# Altium integrated library Microchip Microcontroller 8-Bit PIC17.IntLib: 400 symbols (part 8 of 18)
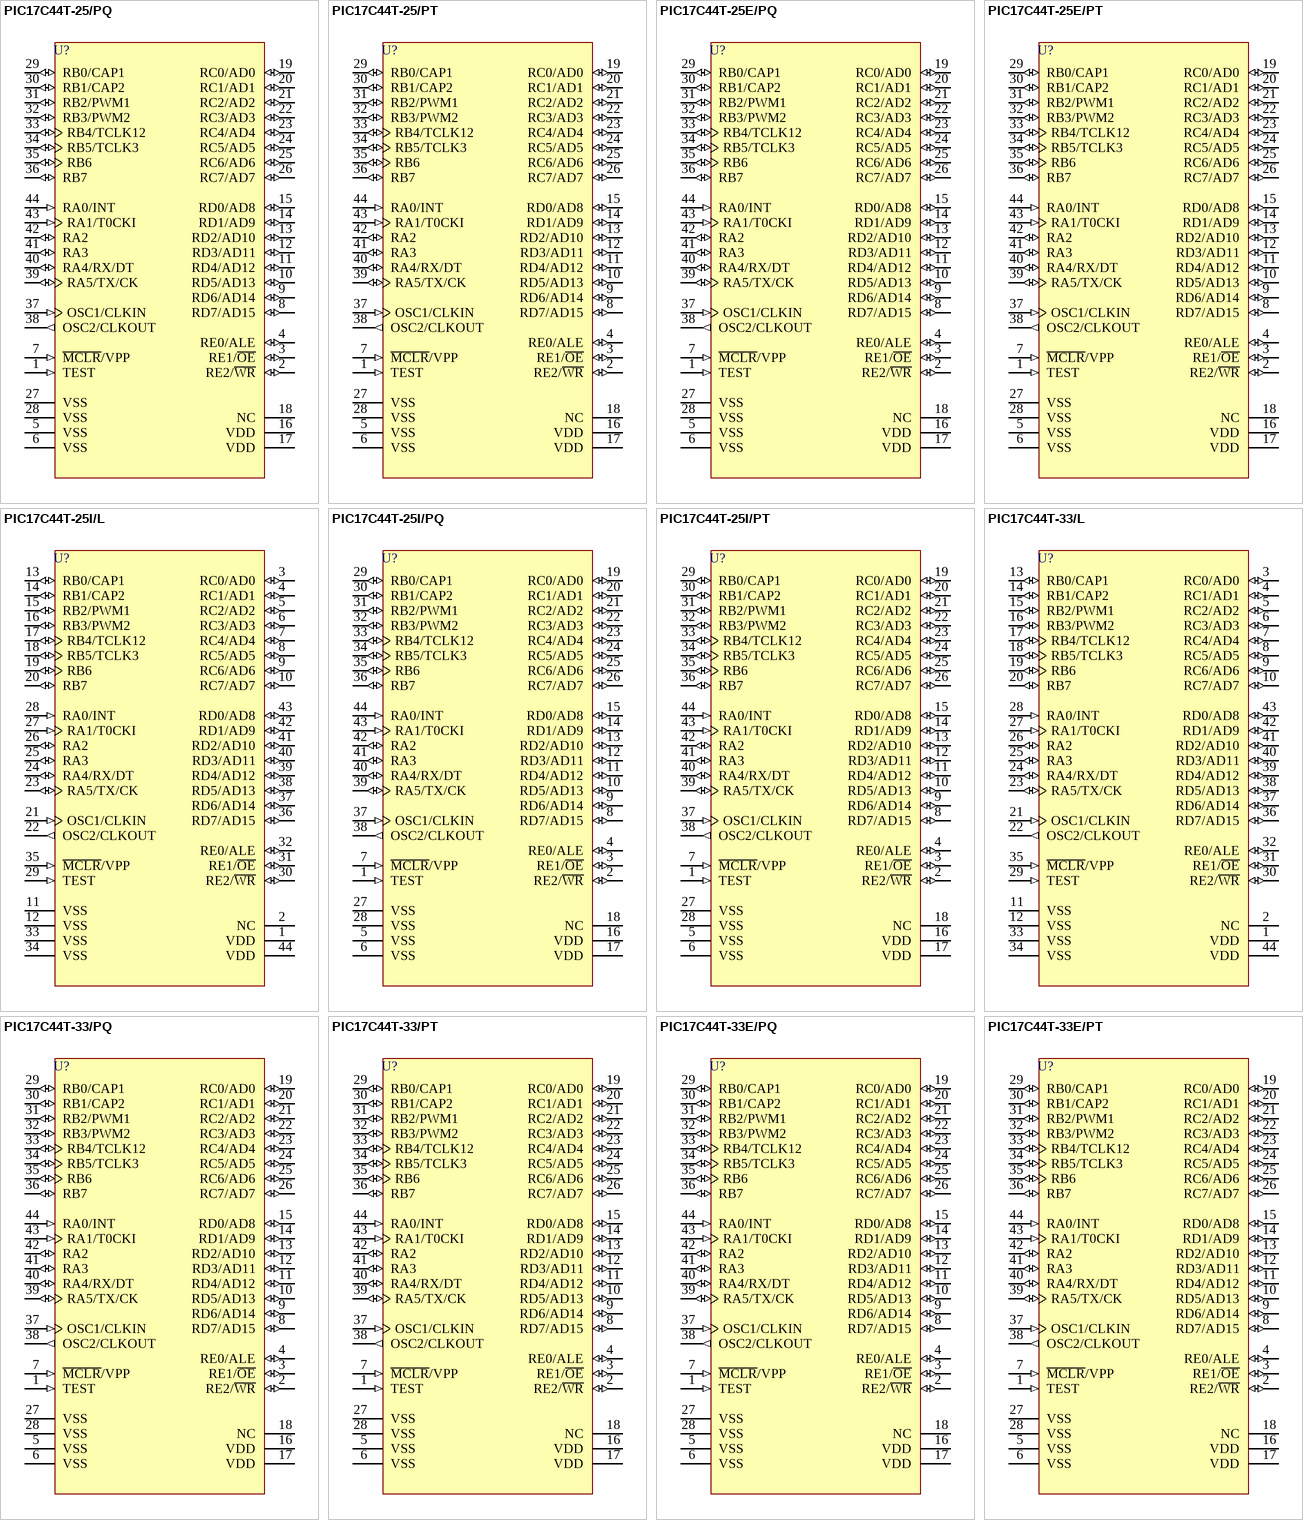
[diagram p49: symbols PIC17C44T-25/PQ to PIC17C44T-33E/PT]

## PIC17C44T-25E/PQ
designator U?
High-Performance 8-Bit CMOS EPROM Microcontroller, 8K EPROM, 25 MHz, 44-Pin MQFP, Standard VDD Range, Extended Temperature, Tape and Reel; Note: Not recommended for new designs. Consider PIC18F442 instead.; Note: Pins RA2 and RA3 can sink up to 60 mA.; Published: 11-Oct-2004; LatestRevisionDate: 13-Apr-2006; LatestRevisionNote: IPC-7351 Footprint Added.; DatasheetVersion: DS30412C_1996; PackageVersion: 2003; PackageReference: MQFP-44; Publisher: Altium Limited; PackageDescription: 44-Pin Plastic Metric Quad Flat Pack 0.8 mm Pitch, 1.6/0.15 mm Lead Form; Code_JEDEC: MS-022; Code_IPC: QFP80P1320X1320-44; ComponentLink1Description: Manufacturer Link; ComponentLink1URL: http://www.microchip.com; ComponentLink2Description: Datasheet; ComponentLink2URL: http://ww1.microchip.com/downloads/en/DeviceDoc/30412c.pdf; ComponentLink3Description: Packaging Specification; ComponentLink3URL: http://ww1.microchip.com/downloads/en/PackagingSpec/00049AD.pdf
footprint MQFP-44_N (QFP, 44-Leads, Body 10x10mm, Pitch 0.8mm, IPC Medium Density)
footprint MQFP-44_L (QFP, 44-Leads, Body 10x10mm, Pitch 0.8mm, IPC High Density)
footprint MQFP-44_M (QFP, 44-Leads, Body 10x10mm, Pitch 0.8mm, IPC Low Density)
3D model PIC17C44-MQFP-44 (44-Pin Plastic Metric Quad Flat Pack 0.8 mm Pitch, 1.6/0.15 mm Lead Form)
pins: 1 TEST (in), 2 RE2/~{WR} (io), 3 RE1/~{OE} (io), 4 RE0/ALE (io), 5 VSS (power), 6 VSS (power), 7 ~{MCLR}/VPP (in), 8 RD7/AD15 (io), 9 RD6/AD14 (io), 10 RD5/AD13 (io), 11 RD4/AD12 (io), 12 RD3/AD11 (io), 13 RD2/AD10 (io), 14 RD1/AD9 (io), 15 RD0/AD8 (io), 16 VDD (power), 17 VDD (power), 18 NC, 19 RC0/AD0 (io), 20 RC1/AD1 (io), 21 RC2/AD2 (io), 22 RC3/AD3 (io), 23 RC4/AD4 (io), 24 RC5/AD5 (io), 25 RC6/AD6 (io), 26 RC7/AD7 (io), 27 VSS (power), 28 VSS (power), 29 RB0/CAP1 (io), 30 RB1/CAP2 (io), 31 RB2/PWM1 (io), 32 RB3/PWM2 (io), 33 RB4/TCLK12 (io), 34 RB5/TCLK3 (io), 35 RB6 (io), 36 RB7 (io), 37 OSC1/CLKIN (in), 38 OSC2/CLKOUT (out), 39 RA5/TX/CK (io), 40 RA4/RX/DT (io), 41 RA3 (io), 42 RA2 (io), 43 RA1/T0CKI (in), 44 RA0/INT (in)

## PIC17C44T-25E/PT
designator U?
High-Performance 8-Bit CMOS EPROM Microcontroller, 8K EPROM, 25 MHz, 44-Pin TQFP, Standard VDD Range, Extended Temperature, Tape and Reel; Note: Not recommended for new designs. Consider PIC18F442 instead.; Note: Pins RA2 and RA3 can sink up to 60 mA.; Published: 11-Oct-2004; LatestRevisionDate: 13-Apr-2006; LatestRevisionNote: IPC-7351 Footprint Added.; DatasheetVersion: DS30412C_1996; PackageVersion: 2003; PackageReference: TQFP-44; Publisher: Altium Limited; PackageDescription: 44-Pin Thin Quad Flat Pack 0.8 mm Pitch, 1.0/0.1 mm Lead Form; Code_JEDEC: MS-026; ComponentLink1Description: Manufacturer Link; ComponentLink1URL: http://www.microchip.com; ComponentLink2Description: Datasheet; ComponentLink2URL: http://ww1.microchip.com/downloads/en/DeviceDoc/30412c.pdf; ComponentLink3Description: Packaging Specification; ComponentLink3URL: http://ww1.microchip.com/downloads/en/PackagingSpec/00049AD.pdf
footprint TQFP-44_N (Thin QFP, 44-Leads, Body 10x10mm, Pitch 0.8mm, IPC Medium Density)
footprint TQFP-44_L (Thin QFP, 44-Leads, Body 10x10mm, Pitch 0.8mm, IPC High Density)
footprint TQFP-44_M (Thin QFP, 44-Leads, Body 10x10mm, Pitch 0.8mm, IPC Low Density)
3D model PIC17C44-TQFP-44 (44-Pin Thin Quad Flat Pack 0.8 mm Pitch, 1.0/0.1 mm Lead Form)
pins: 1 TEST (in), 2 RE2/~{WR} (io), 3 RE1/~{OE} (io), 4 RE0/ALE (io), 5 VSS (power), 6 VSS (power), 7 ~{MCLR}/VPP (in), 8 RD7/AD15 (io), 9 RD6/AD14 (io), 10 RD5/AD13 (io), 11 RD4/AD12 (io), 12 RD3/AD11 (io), 13 RD2/AD10 (io), 14 RD1/AD9 (io), 15 RD0/AD8 (io), 16 VDD (power), 17 VDD (power), 18 NC, 19 RC0/AD0 (io), 20 RC1/AD1 (io), 21 RC2/AD2 (io), 22 RC3/AD3 (io), 23 RC4/AD4 (io), 24 RC5/AD5 (io), 25 RC6/AD6 (io), 26 RC7/AD7 (io), 27 VSS (power), 28 VSS (power), 29 RB0/CAP1 (io), 30 RB1/CAP2 (io), 31 RB2/PWM1 (io), 32 RB3/PWM2 (io), 33 RB4/TCLK12 (io), 34 RB5/TCLK3 (io), 35 RB6 (io), 36 RB7 (io), 37 OSC1/CLKIN (in), 38 OSC2/CLKOUT (out), 39 RA5/TX/CK (io), 40 RA4/RX/DT (io), 41 RA3 (io), 42 RA2 (io), 43 RA1/T0CKI (in), 44 RA0/INT (in)

## PIC17C44T-25I/L
designator U?
High-Performance 8-Bit CMOS EPROM Microcontroller, 8K EPROM, 25 MHz, 44-Pin PLCC, Standard VDD Range, Industrial Temperature, Tape and Reel; Note: Not recommended for new designs. Consider PIC18F442 instead.; Note: Pins RA2 and RA3 can sink up to 60 mA.; Published: 11-Oct-2004; LatestRevisionDate: 13-Apr-2006; LatestRevisionNote: IPC-7351 Footprint Added.; DatasheetVersion: DS30412C_1996; PackageVersion: 2003; PackageReference: PLCC-44; Publisher: Altium Limited; PackageDescription: 44-Pin Leaded Chip Carrier 1.27 mm Pitch; Code_JEDEC: MO-047; Code_IPC: PLCC-44; ComponentLink1Description: Manufacturer Link; ComponentLink1URL: http://www.microchip.com; ComponentLink2Description: Datasheet; ComponentLink2URL: http://ww1.microchip.com/downloads/en/DeviceDoc/30412c.pdf; ComponentLink3Description: Packaging Specification; ComponentLink3URL: http://ww1.microchip.com/downloads/en/PackagingSpec/00049AD.pdf
footprint PLCC-44_N (Leaded Chip Carrier, 44-Leads, Body 16.6x16.6mm, Pitch 1.27mm, IPC Medium Density)
footprint PLCC-44_L (Leaded Chip Carrier, 44-Leads, Body 16.6x16.6mm, Pitch 1.27mm, IPC High Density)
footprint PLCC-44_M (Leaded Chip Carrier, 44-Leads, Body 16.6x16.6mm, Pitch 1.27mm, IPC Low Density)
3D model PIC17C44-PLCC-44 (44-Pin Leaded Chip Carrier 1.27 mm Pitch)
pins: 1 VDD (power), 2 NC, 3 RC0/AD0 (io), 4 RC1/AD1 (io), 5 RC2/AD2 (io), 6 RC3/AD3 (io), 7 RC4/AD4 (io), 8 RC5/AD5 (io), 9 RC6/AD6 (io), 10 RC7/AD7 (io), 11 VSS (power), 12 VSS (power), 13 RB0/CAP1 (io), 14 RB1/CAP2 (io), 15 RB2/PWM1 (io), 16 RB3/PWM2 (io), 17 RB4/TCLK12 (io), 18 RB5/TCLK3 (io), 19 RB6 (io), 20 RB7 (io), 21 OSC1/CLKIN (in), 22 OSC2/CLKOUT (out), 23 RA5/TX/CK (io), 24 RA4/RX/DT (io), 25 RA3 (io), 26 RA2 (io), 27 RA1/T0CKI (in), 28 RA0/INT (in), 29 TEST (in), 30 RE2/~{WR} (io), 31 RE1/~{OE} (io), 32 RE0/ALE (io), 33 VSS (power), 34 VSS (power), 35 ~{MCLR}/VPP (in), 36 RD7/AD15 (io), 37 RD6/AD14 (io), 38 RD5/AD13 (io), 39 RD4/AD12 (io), 40 RD3/AD11 (io), 41 RD2/AD10 (io), 42 RD1/AD9 (io), 43 RD0/AD8 (io), 44 VDD (power)

## PIC17C44T-25I/PQ
designator U?
High-Performance 8-Bit CMOS EPROM Microcontroller, 8K EPROM, 25 MHz, 44-Pin MQFP, Standard VDD Range, Industrial Temperature, Tape and Reel; Note: Not recommended for new designs. Consider PIC18F442 instead.; Note: Pins RA2 and RA3 can sink up to 60 mA.; Published: 11-Oct-2004; LatestRevisionDate: 13-Apr-2006; LatestRevisionNote: IPC-7351 Footprint Added.; DatasheetVersion: DS30412C_1996; PackageVersion: 2003; PackageReference: MQFP-44; Publisher: Altium Limited; PackageDescription: 44-Pin Plastic Metric Quad Flat Pack 0.8 mm Pitch, 1.6/0.15 mm Lead Form; Code_JEDEC: MS-022; Code_IPC: QFP80P1320X1320-44; ComponentLink1Description: Manufacturer Link; ComponentLink1URL: http://www.microchip.com; ComponentLink2Description: Datasheet; ComponentLink2URL: http://ww1.microchip.com/downloads/en/DeviceDoc/30412c.pdf; ComponentLink3Description: Packaging Specification; ComponentLink3URL: http://ww1.microchip.com/downloads/en/PackagingSpec/00049AD.pdf
footprint MQFP-44_N (QFP, 44-Leads, Body 10x10mm, Pitch 0.8mm, IPC Medium Density)
footprint MQFP-44_L (QFP, 44-Leads, Body 10x10mm, Pitch 0.8mm, IPC High Density)
footprint MQFP-44_M (QFP, 44-Leads, Body 10x10mm, Pitch 0.8mm, IPC Low Density)
3D model PIC17C44-MQFP-44 (44-Pin Plastic Metric Quad Flat Pack 0.8 mm Pitch, 1.6/0.15 mm Lead Form)
pins: 1 TEST (in), 2 RE2/~{WR} (io), 3 RE1/~{OE} (io), 4 RE0/ALE (io), 5 VSS (power), 6 VSS (power), 7 ~{MCLR}/VPP (in), 8 RD7/AD15 (io), 9 RD6/AD14 (io), 10 RD5/AD13 (io), 11 RD4/AD12 (io), 12 RD3/AD11 (io), 13 RD2/AD10 (io), 14 RD1/AD9 (io), 15 RD0/AD8 (io), 16 VDD (power), 17 VDD (power), 18 NC, 19 RC0/AD0 (io), 20 RC1/AD1 (io), 21 RC2/AD2 (io), 22 RC3/AD3 (io), 23 RC4/AD4 (io), 24 RC5/AD5 (io), 25 RC6/AD6 (io), 26 RC7/AD7 (io), 27 VSS (power), 28 VSS (power), 29 RB0/CAP1 (io), 30 RB1/CAP2 (io), 31 RB2/PWM1 (io), 32 RB3/PWM2 (io), 33 RB4/TCLK12 (io), 34 RB5/TCLK3 (io), 35 RB6 (io), 36 RB7 (io), 37 OSC1/CLKIN (in), 38 OSC2/CLKOUT (out), 39 RA5/TX/CK (io), 40 RA4/RX/DT (io), 41 RA3 (io), 42 RA2 (io), 43 RA1/T0CKI (in), 44 RA0/INT (in)

## PIC17C44T-25I/PT
designator U?
High-Performance 8-Bit CMOS EPROM Microcontroller, 8K EPROM, 25 MHz, 44-Pin TQFP, Standard VDD Range, Industrial Temperature, Tape and Reel; Note: Not recommended for new designs. Consider PIC18F442 instead.; Note: Pins RA2 and RA3 can sink up to 60 mA.; Published: 11-Oct-2004; LatestRevisionDate: 13-Apr-2006; LatestRevisionNote: IPC-7351 Footprint Added.; DatasheetVersion: DS30412C_1996; PackageVersion: 2003; PackageReference: TQFP-44; Publisher: Altium Limited; PackageDescription: 44-Pin Thin Quad Flat Pack 0.8 mm Pitch, 1.0/0.1 mm Lead Form; Code_JEDEC: MS-026; ComponentLink1Description: Manufacturer Link; ComponentLink1URL: http://www.microchip.com; ComponentLink2Description: Datasheet; ComponentLink2URL: http://ww1.microchip.com/downloads/en/DeviceDoc/30412c.pdf; ComponentLink3Description: Packaging Specification; ComponentLink3URL: http://ww1.microchip.com/downloads/en/PackagingSpec/00049AD.pdf
footprint TQFP-44_N (Thin QFP, 44-Leads, Body 10x10mm, Pitch 0.8mm, IPC Medium Density)
footprint TQFP-44_L (Thin QFP, 44-Leads, Body 10x10mm, Pitch 0.8mm, IPC High Density)
footprint TQFP-44_M (Thin QFP, 44-Leads, Body 10x10mm, Pitch 0.8mm, IPC Low Density)
3D model PIC17C44-TQFP-44 (44-Pin Thin Quad Flat Pack 0.8 mm Pitch, 1.0/0.1 mm Lead Form)
pins: 1 TEST (in), 2 RE2/~{WR} (io), 3 RE1/~{OE} (io), 4 RE0/ALE (io), 5 VSS (power), 6 VSS (power), 7 ~{MCLR}/VPP (in), 8 RD7/AD15 (io), 9 RD6/AD14 (io), 10 RD5/AD13 (io), 11 RD4/AD12 (io), 12 RD3/AD11 (io), 13 RD2/AD10 (io), 14 RD1/AD9 (io), 15 RD0/AD8 (io), 16 VDD (power), 17 VDD (power), 18 NC, 19 RC0/AD0 (io), 20 RC1/AD1 (io), 21 RC2/AD2 (io), 22 RC3/AD3 (io), 23 RC4/AD4 (io), 24 RC5/AD5 (io), 25 RC6/AD6 (io), 26 RC7/AD7 (io), 27 VSS (power), 28 VSS (power), 29 RB0/CAP1 (io), 30 RB1/CAP2 (io), 31 RB2/PWM1 (io), 32 RB3/PWM2 (io), 33 RB4/TCLK12 (io), 34 RB5/TCLK3 (io), 35 RB6 (io), 36 RB7 (io), 37 OSC1/CLKIN (in), 38 OSC2/CLKOUT (out), 39 RA5/TX/CK (io), 40 RA4/RX/DT (io), 41 RA3 (io), 42 RA2 (io), 43 RA1/T0CKI (in), 44 RA0/INT (in)

## PIC17C44T-33/L
designator U?
High-Performance 8-Bit CMOS EPROM Microcontroller, 8K EPROM, 33 MHz, 44-Pin PLCC, Standard VDD Range, Commercial Temperature, Tape and Reel; Note: Not recommended for new designs. Consider PIC18F442 instead.; Note: Pins RA2 and RA3 can sink up to 60 mA.; Published: 11-Oct-2004; LatestRevisionDate: 13-Apr-2006; LatestRevisionNote: IPC-7351 Footprint Added.; DatasheetVersion: DS30412C_1996; PackageVersion: 2003; PackageReference: PLCC-44; Publisher: Altium Limited; PackageDescription: 44-Pin Leaded Chip Carrier 1.27 mm Pitch; Code_JEDEC: MO-047; Code_IPC: PLCC-44; ComponentLink1Description: Manufacturer Link; ComponentLink1URL: http://www.microchip.com; ComponentLink2Description: Datasheet; ComponentLink2URL: http://ww1.microchip.com/downloads/en/DeviceDoc/30412c.pdf; ComponentLink3Description: Packaging Specification; ComponentLink3URL: http://ww1.microchip.com/downloads/en/PackagingSpec/00049AD.pdf
footprint PLCC-44_N (Leaded Chip Carrier, 44-Leads, Body 16.6x16.6mm, Pitch 1.27mm, IPC Medium Density)
footprint PLCC-44_L (Leaded Chip Carrier, 44-Leads, Body 16.6x16.6mm, Pitch 1.27mm, IPC High Density)
footprint PLCC-44_M (Leaded Chip Carrier, 44-Leads, Body 16.6x16.6mm, Pitch 1.27mm, IPC Low Density)
3D model PIC17C44-PLCC-44 (44-Pin Leaded Chip Carrier 1.27 mm Pitch)
pins: 1 VDD (power), 2 NC, 3 RC0/AD0 (io), 4 RC1/AD1 (io), 5 RC2/AD2 (io), 6 RC3/AD3 (io), 7 RC4/AD4 (io), 8 RC5/AD5 (io), 9 RC6/AD6 (io), 10 RC7/AD7 (io), 11 VSS (power), 12 VSS (power), 13 RB0/CAP1 (io), 14 RB1/CAP2 (io), 15 RB2/PWM1 (io), 16 RB3/PWM2 (io), 17 RB4/TCLK12 (io), 18 RB5/TCLK3 (io), 19 RB6 (io), 20 RB7 (io), 21 OSC1/CLKIN (in), 22 OSC2/CLKOUT (out), 23 RA5/TX/CK (io), 24 RA4/RX/DT (io), 25 RA3 (io), 26 RA2 (io), 27 RA1/T0CKI (in), 28 RA0/INT (in), 29 TEST (in), 30 RE2/~{WR} (io), 31 RE1/~{OE} (io), 32 RE0/ALE (io), 33 VSS (power), 34 VSS (power), 35 ~{MCLR}/VPP (in), 36 RD7/AD15 (io), 37 RD6/AD14 (io), 38 RD5/AD13 (io), 39 RD4/AD12 (io), 40 RD3/AD11 (io), 41 RD2/AD10 (io), 42 RD1/AD9 (io), 43 RD0/AD8 (io), 44 VDD (power)

## PIC17C44T-33/PQ
designator U?
High-Performance 8-Bit CMOS EPROM Microcontroller, 8K EPROM, 33 MHz, 44-Pin MQFP, Standard VDD Range, Commercial Temperature, Tape and Reel; Note: Not recommended for new designs. Consider PIC18F442 instead.; Note: Pins RA2 and RA3 can sink up to 60 mA.; Published: 11-Oct-2004; LatestRevisionDate: 13-Apr-2006; LatestRevisionNote: IPC-7351 Footprint Added.; DatasheetVersion: DS30412C_1996; PackageVersion: 2003; PackageReference: MQFP-44; Publisher: Altium Limited; PackageDescription: 44-Pin Plastic Metric Quad Flat Pack 0.8 mm Pitch, 1.6/0.15 mm Lead Form; Code_JEDEC: MS-022; Code_IPC: QFP80P1320X1320-44; ComponentLink1Description: Manufacturer Link; ComponentLink1URL: http://www.microchip.com; ComponentLink2Description: Datasheet; ComponentLink2URL: http://ww1.microchip.com/downloads/en/DeviceDoc/30412c.pdf; ComponentLink3Description: Packaging Specification; ComponentLink3URL: http://ww1.microchip.com/downloads/en/PackagingSpec/00049AD.pdf
footprint MQFP-44_N (QFP, 44-Leads, Body 10x10mm, Pitch 0.8mm, IPC Medium Density)
footprint MQFP-44_L (QFP, 44-Leads, Body 10x10mm, Pitch 0.8mm, IPC High Density)
footprint MQFP-44_M (QFP, 44-Leads, Body 10x10mm, Pitch 0.8mm, IPC Low Density)
3D model PIC17C44-MQFP-44 (44-Pin Plastic Metric Quad Flat Pack 0.8 mm Pitch, 1.6/0.15 mm Lead Form)
pins: 1 TEST (in), 2 RE2/~{WR} (io), 3 RE1/~{OE} (io), 4 RE0/ALE (io), 5 VSS (power), 6 VSS (power), 7 ~{MCLR}/VPP (in), 8 RD7/AD15 (io), 9 RD6/AD14 (io), 10 RD5/AD13 (io), 11 RD4/AD12 (io), 12 RD3/AD11 (io), 13 RD2/AD10 (io), 14 RD1/AD9 (io), 15 RD0/AD8 (io), 16 VDD (power), 17 VDD (power), 18 NC, 19 RC0/AD0 (io), 20 RC1/AD1 (io), 21 RC2/AD2 (io), 22 RC3/AD3 (io), 23 RC4/AD4 (io), 24 RC5/AD5 (io), 25 RC6/AD6 (io), 26 RC7/AD7 (io), 27 VSS (power), 28 VSS (power), 29 RB0/CAP1 (io), 30 RB1/CAP2 (io), 31 RB2/PWM1 (io), 32 RB3/PWM2 (io), 33 RB4/TCLK12 (io), 34 RB5/TCLK3 (io), 35 RB6 (io), 36 RB7 (io), 37 OSC1/CLKIN (in), 38 OSC2/CLKOUT (out), 39 RA5/TX/CK (io), 40 RA4/RX/DT (io), 41 RA3 (io), 42 RA2 (io), 43 RA1/T0CKI (in), 44 RA0/INT (in)

## PIC17C44T-33/PT
designator U?
High-Performance 8-Bit CMOS EPROM Microcontroller, 8K EPROM, 33 MHz, 44-Pin TQFP, Standard VDD Range, Commercial Temperature, Tape and Reel; Note: Not recommended for new designs. Consider PIC18F442 instead.; Note: Pins RA2 and RA3 can sink up to 60 mA.; Published: 11-Oct-2004; LatestRevisionDate: 13-Apr-2006; LatestRevisionNote: IPC-7351 Footprint Added.; DatasheetVersion: DS30412C_1996; PackageVersion: 2003; PackageReference: TQFP-44; Publisher: Altium Limited; PackageDescription: 44-Pin Thin Quad Flat Pack 0.8 mm Pitch, 1.0/0.1 mm Lead Form; Code_JEDEC: MS-026; ComponentLink1Description: Manufacturer Link; ComponentLink1URL: http://www.microchip.com; ComponentLink2Description: Datasheet; ComponentLink2URL: http://ww1.microchip.com/downloads/en/DeviceDoc/30412c.pdf; ComponentLink3Description: Packaging Specification; ComponentLink3URL: http://ww1.microchip.com/downloads/en/PackagingSpec/00049AD.pdf
footprint TQFP-44_N (Thin QFP, 44-Leads, Body 10x10mm, Pitch 0.8mm, IPC Medium Density)
footprint TQFP-44_L (Thin QFP, 44-Leads, Body 10x10mm, Pitch 0.8mm, IPC High Density)
footprint TQFP-44_M (Thin QFP, 44-Leads, Body 10x10mm, Pitch 0.8mm, IPC Low Density)
3D model PIC17C44-TQFP-44 (44-Pin Thin Quad Flat Pack 0.8 mm Pitch, 1.0/0.1 mm Lead Form)
pins: 1 TEST (in), 2 RE2/~{WR} (io), 3 RE1/~{OE} (io), 4 RE0/ALE (io), 5 VSS (power), 6 VSS (power), 7 ~{MCLR}/VPP (in), 8 RD7/AD15 (io), 9 RD6/AD14 (io), 10 RD5/AD13 (io), 11 RD4/AD12 (io), 12 RD3/AD11 (io), 13 RD2/AD10 (io), 14 RD1/AD9 (io), 15 RD0/AD8 (io), 16 VDD (power), 17 VDD (power), 18 NC, 19 RC0/AD0 (io), 20 RC1/AD1 (io), 21 RC2/AD2 (io), 22 RC3/AD3 (io), 23 RC4/AD4 (io), 24 RC5/AD5 (io), 25 RC6/AD6 (io), 26 RC7/AD7 (io), 27 VSS (power), 28 VSS (power), 29 RB0/CAP1 (io), 30 RB1/CAP2 (io), 31 RB2/PWM1 (io), 32 RB3/PWM2 (io), 33 RB4/TCLK12 (io), 34 RB5/TCLK3 (io), 35 RB6 (io), 36 RB7 (io), 37 OSC1/CLKIN (in), 38 OSC2/CLKOUT (out), 39 RA5/TX/CK (io), 40 RA4/RX/DT (io), 41 RA3 (io), 42 RA2 (io), 43 RA1/T0CKI (in), 44 RA0/INT (in)

## PIC17C44T-33E/PQ
designator U?
High-Performance 8-Bit CMOS EPROM Microcontroller, 8K EPROM, 33 MHz, 44-Pin MQFP, Standard VDD Range, Extended Temperature, Tape and Reel; Note: Not recommended for new designs. Consider PIC18F442 instead.; Note: Pins RA2 and RA3 can sink up to 60 mA.; Published: 11-Oct-2004; LatestRevisionDate: 13-Apr-2006; LatestRevisionNote: IPC-7351 Footprint Added.; DatasheetVersion: DS30412C_1996; PackageVersion: 2003; PackageReference: MQFP-44; Publisher: Altium Limited; PackageDescription: 44-Pin Plastic Metric Quad Flat Pack 0.8 mm Pitch, 1.6/0.15 mm Lead Form; Code_JEDEC: MS-022; Code_IPC: QFP80P1320X1320-44; ComponentLink1Description: Manufacturer Link; ComponentLink1URL: http://www.microchip.com; ComponentLink2Description: Datasheet; ComponentLink2URL: http://ww1.microchip.com/downloads/en/DeviceDoc/30412c.pdf; ComponentLink3Description: Packaging Specification; ComponentLink3URL: http://ww1.microchip.com/downloads/en/PackagingSpec/00049AD.pdf
footprint MQFP-44_N (QFP, 44-Leads, Body 10x10mm, Pitch 0.8mm, IPC Medium Density)
footprint MQFP-44_L (QFP, 44-Leads, Body 10x10mm, Pitch 0.8mm, IPC High Density)
footprint MQFP-44_M (QFP, 44-Leads, Body 10x10mm, Pitch 0.8mm, IPC Low Density)
3D model PIC17C44-MQFP-44 (44-Pin Plastic Metric Quad Flat Pack 0.8 mm Pitch, 1.6/0.15 mm Lead Form)
pins: 1 TEST (in), 2 RE2/~{WR} (io), 3 RE1/~{OE} (io), 4 RE0/ALE (io), 5 VSS (power), 6 VSS (power), 7 ~{MCLR}/VPP (in), 8 RD7/AD15 (io), 9 RD6/AD14 (io), 10 RD5/AD13 (io), 11 RD4/AD12 (io), 12 RD3/AD11 (io), 13 RD2/AD10 (io), 14 RD1/AD9 (io), 15 RD0/AD8 (io), 16 VDD (power), 17 VDD (power), 18 NC, 19 RC0/AD0 (io), 20 RC1/AD1 (io), 21 RC2/AD2 (io), 22 RC3/AD3 (io), 23 RC4/AD4 (io), 24 RC5/AD5 (io), 25 RC6/AD6 (io), 26 RC7/AD7 (io), 27 VSS (power), 28 VSS (power), 29 RB0/CAP1 (io), 30 RB1/CAP2 (io), 31 RB2/PWM1 (io), 32 RB3/PWM2 (io), 33 RB4/TCLK12 (io), 34 RB5/TCLK3 (io), 35 RB6 (io), 36 RB7 (io), 37 OSC1/CLKIN (in), 38 OSC2/CLKOUT (out), 39 RA5/TX/CK (io), 40 RA4/RX/DT (io), 41 RA3 (io), 42 RA2 (io), 43 RA1/T0CKI (in), 44 RA0/INT (in)

## PIC17C44T-33E/PT
designator U?
High-Performance 8-Bit CMOS EPROM Microcontroller, 8K EPROM, 33 MHz, 44-Pin TQFP, Standard VDD Range, Extended Temperature, Tape and Reel; Note: Not recommended for new designs. Consider PIC18F442 instead.; Note: Pins RA2 and RA3 can sink up to 60 mA.; Published: 11-Oct-2004; LatestRevisionDate: 13-Apr-2006; LatestRevisionNote: IPC-7351 Footprint Added.; DatasheetVersion: DS30412C_1996; PackageVersion: 2003; PackageReference: TQFP-44; Publisher: Altium Limited; PackageDescription: 44-Pin Thin Quad Flat Pack 0.8 mm Pitch, 1.0/0.1 mm Lead Form; Code_JEDEC: MS-026; ComponentLink1Description: Manufacturer Link; ComponentLink1URL: http://www.microchip.com; ComponentLink2Description: Datasheet; ComponentLink2URL: http://ww1.microchip.com/downloads/en/DeviceDoc/30412c.pdf; ComponentLink3Description: Packaging Specification; ComponentLink3URL: http://ww1.microchip.com/downloads/en/PackagingSpec/00049AD.pdf
footprint TQFP-44_N (Thin QFP, 44-Leads, Body 10x10mm, Pitch 0.8mm, IPC Medium Density)
footprint TQFP-44_L (Thin QFP, 44-Leads, Body 10x10mm, Pitch 0.8mm, IPC High Density)
footprint TQFP-44_M (Thin QFP, 44-Leads, Body 10x10mm, Pitch 0.8mm, IPC Low Density)
3D model PIC17C44-TQFP-44 (44-Pin Thin Quad Flat Pack 0.8 mm Pitch, 1.0/0.1 mm Lead Form)
pins: 1 TEST (in), 2 RE2/~{WR} (io), 3 RE1/~{OE} (io), 4 RE0/ALE (io), 5 VSS (power), 6 VSS (power), 7 ~{MCLR}/VPP (in), 8 RD7/AD15 (io), 9 RD6/AD14 (io), 10 RD5/AD13 (io), 11 RD4/AD12 (io), 12 RD3/AD11 (io), 13 RD2/AD10 (io), 14 RD1/AD9 (io), 15 RD0/AD8 (io), 16 VDD (power), 17 VDD (power), 18 NC, 19 RC0/AD0 (io), 20 RC1/AD1 (io), 21 RC2/AD2 (io), 22 RC3/AD3 (io), 23 RC4/AD4 (io), 24 RC5/AD5 (io), 25 RC6/AD6 (io), 26 RC7/AD7 (io), 27 VSS (power), 28 VSS (power), 29 RB0/CAP1 (io), 30 RB1/CAP2 (io), 31 RB2/PWM1 (io), 32 RB3/PWM2 (io), 33 RB4/TCLK12 (io), 34 RB5/TCLK3 (io), 35 RB6 (io), 36 RB7 (io), 37 OSC1/CLKIN (in), 38 OSC2/CLKOUT (out), 39 RA5/TX/CK (io), 40 RA4/RX/DT (io), 41 RA3 (io), 42 RA2 (io), 43 RA1/T0CKI (in), 44 RA0/INT (in)

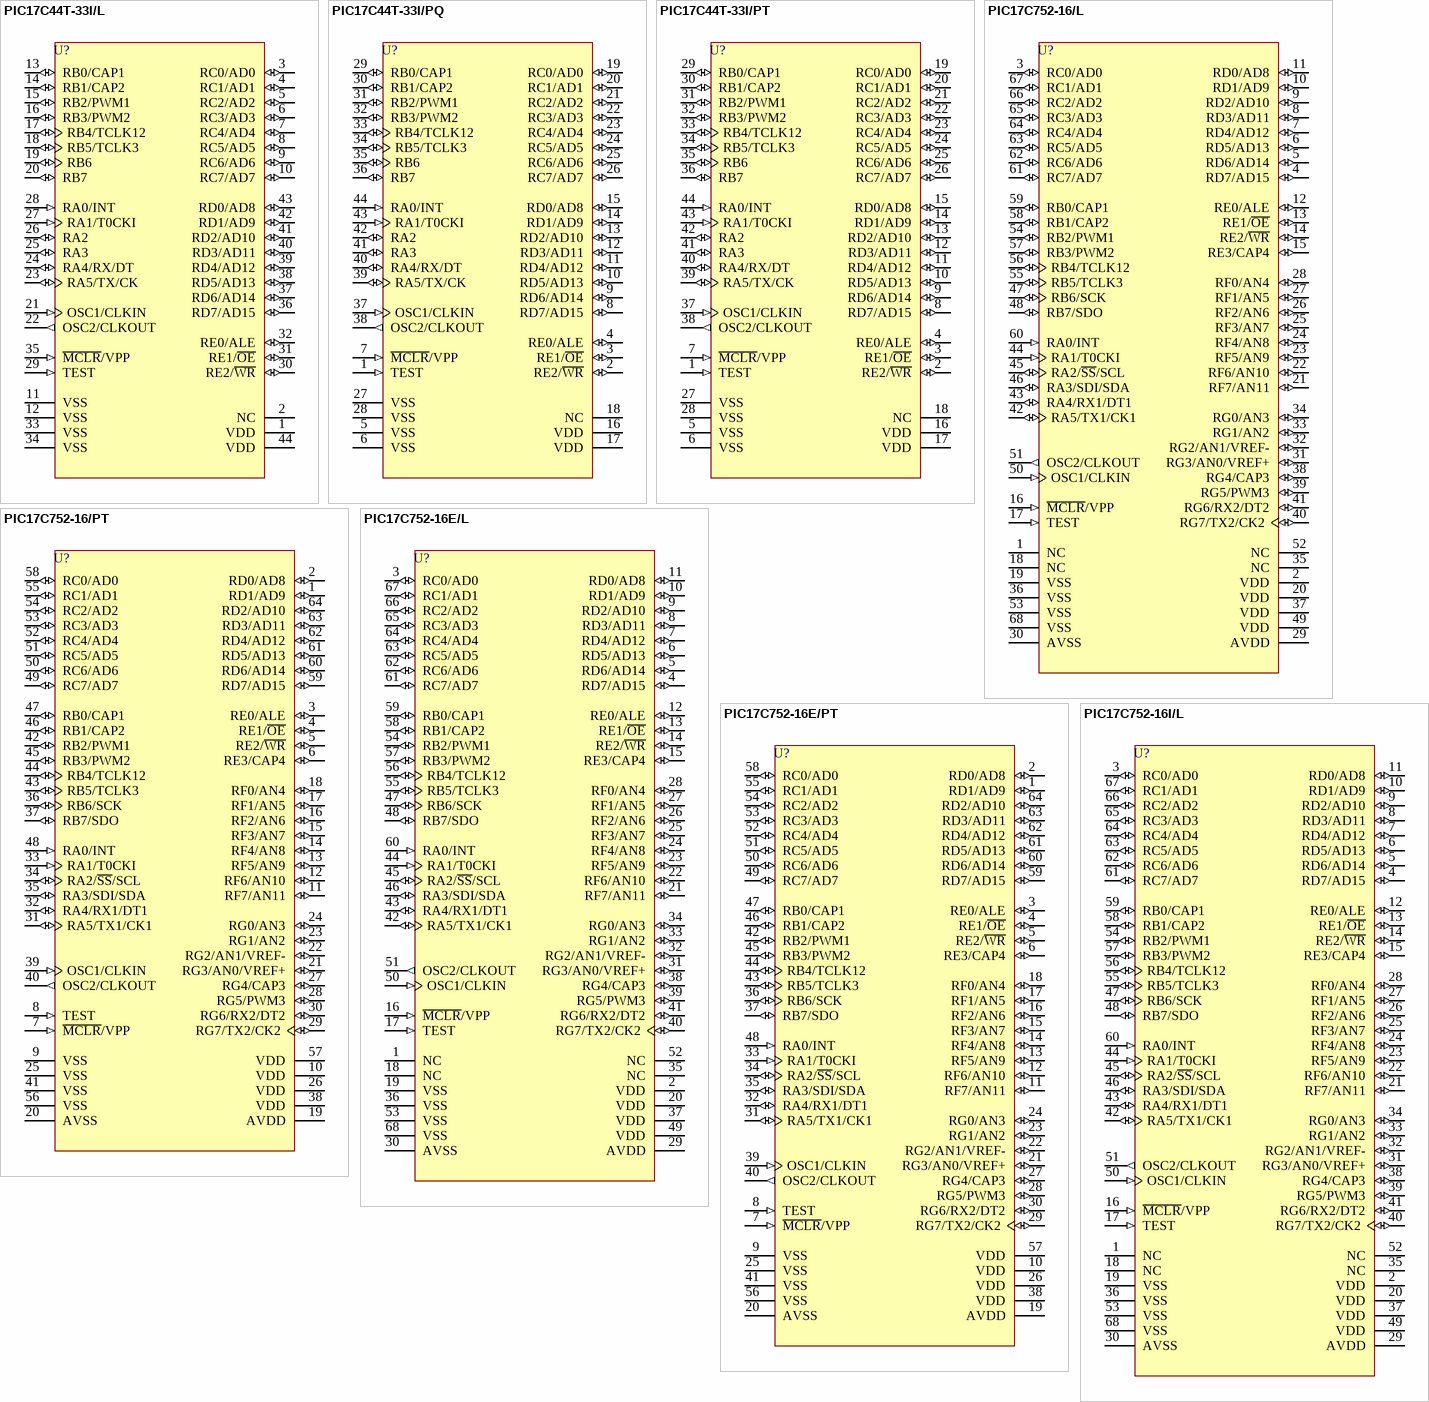
[diagram p15: symbols PIC17C44T-33I/L to PIC17C752-16I/L]

## PIC17C44T-33I/L
designator U?
High-Performance 8-Bit CMOS EPROM Microcontroller, 8K EPROM, 33 MHz, 44-Pin PLCC, Standard VDD Range, Industrial Temperature, Tape and Reel; Note: Not recommended for new designs. Consider PIC18F442 instead.; Note: Pins RA2 and RA3 can sink up to 60 mA.; Published: 11-Oct-2004; LatestRevisionDate: 13-Apr-2006; LatestRevisionNote: IPC-7351 Footprint Added.; DatasheetVersion: DS30412C_1996; PackageVersion: 2003; PackageReference: PLCC-44; Publisher: Altium Limited; PackageDescription: 44-Pin Leaded Chip Carrier 1.27 mm Pitch; Code_JEDEC: MO-047; Code_IPC: PLCC-44; ComponentLink1Description: Manufacturer Link; ComponentLink1URL: http://www.microchip.com; ComponentLink2Description: Datasheet; ComponentLink2URL: http://ww1.microchip.com/downloads/en/DeviceDoc/30412c.pdf; ComponentLink3Description: Packaging Specification; ComponentLink3URL: http://ww1.microchip.com/downloads/en/PackagingSpec/00049AD.pdf
footprint PLCC-44_N (Leaded Chip Carrier, 44-Leads, Body 16.6x16.6mm, Pitch 1.27mm, IPC Medium Density)
footprint PLCC-44_L (Leaded Chip Carrier, 44-Leads, Body 16.6x16.6mm, Pitch 1.27mm, IPC High Density)
footprint PLCC-44_M (Leaded Chip Carrier, 44-Leads, Body 16.6x16.6mm, Pitch 1.27mm, IPC Low Density)
3D model PIC17C44-PLCC-44 (44-Pin Leaded Chip Carrier 1.27 mm Pitch)
pins: 1 VDD (power), 2 NC, 3 RC0/AD0 (io), 4 RC1/AD1 (io), 5 RC2/AD2 (io), 6 RC3/AD3 (io), 7 RC4/AD4 (io), 8 RC5/AD5 (io), 9 RC6/AD6 (io), 10 RC7/AD7 (io), 11 VSS (power), 12 VSS (power), 13 RB0/CAP1 (io), 14 RB1/CAP2 (io), 15 RB2/PWM1 (io), 16 RB3/PWM2 (io), 17 RB4/TCLK12 (io), 18 RB5/TCLK3 (io), 19 RB6 (io), 20 RB7 (io), 21 OSC1/CLKIN (in), 22 OSC2/CLKOUT (out), 23 RA5/TX/CK (io), 24 RA4/RX/DT (io), 25 RA3 (io), 26 RA2 (io), 27 RA1/T0CKI (in), 28 RA0/INT (in), 29 TEST (in), 30 RE2/~{WR} (io), 31 RE1/~{OE} (io), 32 RE0/ALE (io), 33 VSS (power), 34 VSS (power), 35 ~{MCLR}/VPP (in), 36 RD7/AD15 (io), 37 RD6/AD14 (io), 38 RD5/AD13 (io), 39 RD4/AD12 (io), 40 RD3/AD11 (io), 41 RD2/AD10 (io), 42 RD1/AD9 (io), 43 RD0/AD8 (io), 44 VDD (power)

## PIC17C44T-33I/PQ
designator U?
High-Performance 8-Bit CMOS EPROM Microcontroller, 8K EPROM, 33 MHz, 44-Pin MQFP, Standard VDD Range, Industrial Temperature, Tape and Reel; Note: Not recommended for new designs. Consider PIC18F442 instead.; Note: Pins RA2 and RA3 can sink up to 60 mA.; Published: 11-Oct-2004; LatestRevisionDate: 13-Apr-2006; LatestRevisionNote: IPC-7351 Footprint Added.; DatasheetVersion: DS30412C_1996; PackageVersion: 2003; PackageReference: MQFP-44; Publisher: Altium Limited; PackageDescription: 44-Pin Plastic Metric Quad Flat Pack 0.8 mm Pitch, 1.6/0.15 mm Lead Form; Code_JEDEC: MS-022; Code_IPC: QFP80P1320X1320-44; ComponentLink1Description: Manufacturer Link; ComponentLink1URL: http://www.microchip.com; ComponentLink2Description: Datasheet; ComponentLink2URL: http://ww1.microchip.com/downloads/en/DeviceDoc/30412c.pdf; ComponentLink3Description: Packaging Specification; ComponentLink3URL: http://ww1.microchip.com/downloads/en/PackagingSpec/00049AD.pdf
footprint MQFP-44_N (QFP, 44-Leads, Body 10x10mm, Pitch 0.8mm, IPC Medium Density)
footprint MQFP-44_L (QFP, 44-Leads, Body 10x10mm, Pitch 0.8mm, IPC High Density)
footprint MQFP-44_M (QFP, 44-Leads, Body 10x10mm, Pitch 0.8mm, IPC Low Density)
3D model PIC17C44-MQFP-44 (44-Pin Plastic Metric Quad Flat Pack 0.8 mm Pitch, 1.6/0.15 mm Lead Form)
pins: 1 TEST (in), 2 RE2/~{WR} (io), 3 RE1/~{OE} (io), 4 RE0/ALE (io), 5 VSS (power), 6 VSS (power), 7 ~{MCLR}/VPP (in), 8 RD7/AD15 (io), 9 RD6/AD14 (io), 10 RD5/AD13 (io), 11 RD4/AD12 (io), 12 RD3/AD11 (io), 13 RD2/AD10 (io), 14 RD1/AD9 (io), 15 RD0/AD8 (io), 16 VDD (power), 17 VDD (power), 18 NC, 19 RC0/AD0 (io), 20 RC1/AD1 (io), 21 RC2/AD2 (io), 22 RC3/AD3 (io), 23 RC4/AD4 (io), 24 RC5/AD5 (io), 25 RC6/AD6 (io), 26 RC7/AD7 (io), 27 VSS (power), 28 VSS (power), 29 RB0/CAP1 (io), 30 RB1/CAP2 (io), 31 RB2/PWM1 (io), 32 RB3/PWM2 (io), 33 RB4/TCLK12 (io), 34 RB5/TCLK3 (io), 35 RB6 (io), 36 RB7 (io), 37 OSC1/CLKIN (in), 38 OSC2/CLKOUT (out), 39 RA5/TX/CK (io), 40 RA4/RX/DT (io), 41 RA3 (io), 42 RA2 (io), 43 RA1/T0CKI (in), 44 RA0/INT (in)

## PIC17C44T-33I/PT
designator U?
High-Performance 8-Bit CMOS EPROM Microcontroller, 8K EPROM, 33 MHz, 44-Pin TQFP, Standard VDD Range, Industrial Temperature, Tape and Reel; Note: Not recommended for new designs. Consider PIC18F442 instead.; Note: Pins RA2 and RA3 can sink up to 60 mA.; Published: 11-Oct-2004; LatestRevisionDate: 13-Apr-2006; LatestRevisionNote: IPC-7351 Footprint Added.; DatasheetVersion: DS30412C_1996; PackageVersion: 2003; PackageReference: TQFP-44; Publisher: Altium Limited; PackageDescription: 44-Pin Thin Quad Flat Pack 0.8 mm Pitch, 1.0/0.1 mm Lead Form; Code_JEDEC: MS-026; ComponentLink1Description: Manufacturer Link; ComponentLink1URL: http://www.microchip.com; ComponentLink2Description: Datasheet; ComponentLink2URL: http://ww1.microchip.com/downloads/en/DeviceDoc/30412c.pdf; ComponentLink3Description: Packaging Specification; ComponentLink3URL: http://ww1.microchip.com/downloads/en/PackagingSpec/00049AD.pdf
footprint TQFP-44_N (Thin QFP, 44-Leads, Body 10x10mm, Pitch 0.8mm, IPC Medium Density)
footprint TQFP-44_L (Thin QFP, 44-Leads, Body 10x10mm, Pitch 0.8mm, IPC High Density)
footprint TQFP-44_M (Thin QFP, 44-Leads, Body 10x10mm, Pitch 0.8mm, IPC Low Density)
3D model PIC17C44-TQFP-44 (44-Pin Thin Quad Flat Pack 0.8 mm Pitch, 1.0/0.1 mm Lead Form)
pins: 1 TEST (in), 2 RE2/~{WR} (io), 3 RE1/~{OE} (io), 4 RE0/ALE (io), 5 VSS (power), 6 VSS (power), 7 ~{MCLR}/VPP (in), 8 RD7/AD15 (io), 9 RD6/AD14 (io), 10 RD5/AD13 (io), 11 RD4/AD12 (io), 12 RD3/AD11 (io), 13 RD2/AD10 (io), 14 RD1/AD9 (io), 15 RD0/AD8 (io), 16 VDD (power), 17 VDD (power), 18 NC, 19 RC0/AD0 (io), 20 RC1/AD1 (io), 21 RC2/AD2 (io), 22 RC3/AD3 (io), 23 RC4/AD4 (io), 24 RC5/AD5 (io), 25 RC6/AD6 (io), 26 RC7/AD7 (io), 27 VSS (power), 28 VSS (power), 29 RB0/CAP1 (io), 30 RB1/CAP2 (io), 31 RB2/PWM1 (io), 32 RB3/PWM2 (io), 33 RB4/TCLK12 (io), 34 RB5/TCLK3 (io), 35 RB6 (io), 36 RB7 (io), 37 OSC1/CLKIN (in), 38 OSC2/CLKOUT (out), 39 RA5/TX/CK (io), 40 RA4/RX/DT (io), 41 RA3 (io), 42 RA2 (io), 43 RA1/T0CKI (in), 44 RA0/INT (in)

## PIC17C752-16/L
designator U?
High-Performance 8-Bit CMOS EPROM Microcontroller with 10-Bit A/D, 8K (x16) EPROM, 16 MHz, 68-Pin PLCC, Standard VDD Range, Commercial Temperature; Note: Not recommended for new designs. Consider PIC18F6520 instead.; Note: Pins RA2 and RA3 can sink up to 60 mA.; Published: 11-Oct-2004; LatestRevisionDate: 13-Apr-2006; LatestRevisionNote: IPC-7351 Footprint Added.; DatasheetVersion: DS30289B_2000; PackageVersion: 2003; PackageReference: PLCC-68; Publisher: Altium Limited; PackageDescription: 68-Pin Leaded Chip Carrier 1.27 mm Pitch; Code_JEDEC: MO-047; Code_IPC: PLCC-68; ComponentLink1Description: Manufacturer Link; ComponentLink1URL: http://www.microchip.com; ComponentLink2Description: Datasheet; ComponentLink2URL: http://ww1.microchip.com/downloads/en/DeviceDoc/30289b.pdf; ComponentLink3Description: Packaging Specification; ComponentLink3URL: http://ww1.microchip.com/downloads/en/PackagingSpec/00049AD.pdf
footprint PLCC-68_N (Leaded Chip Carrier, 68-Leads, Body 24x24mm, Pitch 1.27mm, IPC Medium Density)
footprint PLCC-68_L (Leaded Chip Carrier, 68-Leads, Body 24x24mm, Pitch 1.27mm, IPC High Density)
footprint PLCC-68_M (Leaded Chip Carrier, 68-Leads, Body 24x24mm, Pitch 1.27mm, IPC Low Density)
3D model PIC17C752-PLCC-68 (68-Pin Leaded Chip Carrier 1.27 mm Pitch)
pins: 1 NC, 2 VDD (power), 3 RC0/AD0 (io), 4 RD7/AD15 (io), 5 RD6/AD14 (io), 6 RD5/AD13 (io), 7 RD4/AD12 (io), 8 RD3/AD11 (io), 9 RD2/AD10 (io), 10 RD1/AD9 (io), 11 RD0/AD8 (io), 12 RE0/ALE (io), 13 RE1/~{OE} (io), 14 RE2/~{WR} (io), 15 RE3/CAP4 (io), 16 ~{MCLR}/VPP (in), 17 TEST (in), 18 NC, 19 VSS (power), 20 VDD (power), 21 RF7/AN11 (io), 22 RF6/AN10 (io), 23 RF5/AN9 (io), 24 RF4/AN8 (io), 25 RF3/AN7 (io), 26 RF2/AN6 (io), 27 RF1/AN5 (io), 28 RF0/AN4 (io), 29 AVDD (power), 30 AVSS (power), 31 RG3/AN0/VREF+ (io), 32 RG2/AN1/VREF- (io), 33 RG1/AN2 (io), 34 RG0/AN3 (io), 35 NC, 36 VSS (power), 37 VDD (power), 38 RG4/CAP3 (io), 39 RG5/PWM3 (io), 40 RG7/TX2/CK2 (io), 41 RG6/RX2/DT2 (io), 42 RA5/TX1/CK1 (io), 43 RA4/RX1/DT1 (io), 44 RA1/T0CKI (in), 45 RA2/~{SS}/SCL (io), 46 RA3/SDI/SDA (io), 47 RB6/SCK (io), 48 RB7/SDO (io), 49 VDD (power), 50 OSC1/CLKIN (in), 51 OSC2/CLKOUT (out), 52 NC, 53 VSS (power), 54 RB2/PWM1 (io), 55 RB5/TCLK3 (io), 56 RB4/TCLK12 (io), 57 RB3/PWM2 (io), 58 RB1/CAP2 (io), 59 RB0/CAP1 (io), 60 RA0/INT (in), 61 RC7/AD7 (io), 62 RC6/AD6 (io), 63 RC5/AD5 (io), 64 RC4/AD4 (io), 65 RC3/AD3 (io), 66 RC2/AD2 (io), 67 RC1/AD1 (io), 68 VSS (power)

## PIC17C752-16/PT
designator U?
High-Performance 8-Bit CMOS EPROM Microcontroller with 10-Bit A/D, 8K (x16) EPROM, 16 MHz, 64-Pin TQFP, Standard VDD Range, Commercial Temperature; Note: Not recommended for new designs. Consider PIC18F6520 instead.; Note: Pins RA2 and RA3 can sink up to 60 mA.; Published: 11-Oct-2004; LatestRevisionDate: 13-Apr-2006; LatestRevisionNote: IPC-7351 Footprint Added.; DatasheetVersion: DS30289B_2000; PackageVersion: 2003; PackageReference: TQFP-64; Publisher: Altium Limited; PackageDescription: 64-Pin Thin Plastic Quad Flat Pack 0.5 mm Pitch, 1.0/0.1 mm Lead Form; Code_JEDEC: MS-026; ComponentLink1Description: Manufacturer Link; ComponentLink1URL: http://www.microchip.com; ComponentLink2Description: Datasheet; ComponentLink2URL: http://ww1.microchip.com/downloads/en/DeviceDoc/30289b.pdf; ComponentLink3Description: Packaging Specification; ComponentLink3URL: http://ww1.microchip.com/downloads/en/PackagingSpec/00049AD.pdf
footprint TQFP-64_N (Thin QFP, 64-Leads, Body 10x10mm, Pitch 0.5mm, IPC Medium Density)
footprint TQFP-64_L (Thin QFP, 64-Leads, Body 10x10mm, Pitch 0.5mm, IPC High Density)
footprint TQFP-64_M (Thin QFP, 64-Leads, Body 10x10mm, Pitch 0.5mm, IPC Low Density)
3D model PIC17C752-TQFP-64 (64-Pin Thin Plastic Quad Flat Pack 0.5 mm Pitch, 1.0/0.1 mm Lead Form)
pins: 1 RD1/AD9 (io), 2 RD0/AD8 (io), 3 RE0/ALE (io), 4 RE1/~{OE} (io), 5 RE2/~{WR} (io), 6 RE3/CAP4 (io), 7 ~{MCLR}/VPP (in), 8 TEST (in), 9 VSS (power), 10 VDD (power), 11 RF7/AN11 (io), 12 RF6/AN10 (io), 13 RF5/AN9 (io), 14 RF4/AN8 (io), 15 RF3/AN7 (io), 16 RF2/AN6 (io), 17 RF1/AN5 (io), 18 RF0/AN4 (io), 19 AVDD (power), 20 AVSS (power), 21 RG3/AN0/VREF+ (io), 22 RG2/AN1/VREF- (io), 23 RG1/AN2 (io), 24 RG0/AN3 (io), 25 VSS (power), 26 VDD (power), 27 RG4/CAP3 (io), 28 RG5/PWM3 (io), 29 RG7/TX2/CK2 (io), 30 RG6/RX2/DT2 (io), 31 RA5/TX1/CK1 (io), 32 RA4/RX1/DT1 (io), 33 RA1/T0CKI (in), 34 RA2/~{SS}/SCL (io), 35 RA3/SDI/SDA (io), 36 RB6/SCK (io), 37 RB7/SDO (io), 38 VDD (power), 39 OSC1/CLKIN (in), 40 OSC2/CLKOUT (out), 41 VSS (power), 42 RB2/PWM1 (io), 43 RB5/TCLK3 (io), 44 RB4/TCLK12 (io), 45 RB3/PWM2 (io), 46 RB1/CAP2 (io), 47 RB0/CAP1 (io), 48 RA0/INT (in), 49 RC7/AD7 (io), 50 RC6/AD6 (io), 51 RC5/AD5 (io), 52 RC4/AD4 (io), 53 RC3/AD3 (io), 54 RC2/AD2 (io), 55 RC1/AD1 (io), 56 VSS (power), 57 VDD (power), 58 RC0/AD0 (io), 59 RD7/AD15 (io), 60 RD6/AD14 (io), 61 RD5/AD13 (io), 62 RD4/AD12 (io), 63 RD3/AD11 (io), 64 RD2/AD10 (io)

## PIC17C752-16E/L
designator U?
High-Performance 8-Bit CMOS EPROM Microcontroller with 10-Bit A/D, 8K (x16) EPROM, 16 MHz, 68-Pin PLCC, Standard VDD Range, Extended Temperature; Note: Not recommended for new designs. Consider PIC18F6520 instead.; Note: Pins RA2 and RA3 can sink up to 60 mA.; Published: 11-Oct-2004; LatestRevisionDate: 13-Apr-2006; LatestRevisionNote: IPC-7351 Footprint Added.; DatasheetVersion: DS30289B_2000; PackageVersion: 2003; PackageReference: PLCC-68; Publisher: Altium Limited; PackageDescription: 68-Pin Leaded Chip Carrier 1.27 mm Pitch; Code_JEDEC: MO-047; Code_IPC: PLCC-68; ComponentLink1Description: Manufacturer Link; ComponentLink1URL: http://www.microchip.com; ComponentLink2Description: Datasheet; ComponentLink2URL: http://ww1.microchip.com/downloads/en/DeviceDoc/30289b.pdf; ComponentLink3Description: Packaging Specification; ComponentLink3URL: http://ww1.microchip.com/downloads/en/PackagingSpec/00049AD.pdf
footprint PLCC-68_N (Leaded Chip Carrier, 68-Leads, Body 24x24mm, Pitch 1.27mm, IPC Medium Density)
footprint PLCC-68_L (Leaded Chip Carrier, 68-Leads, Body 24x24mm, Pitch 1.27mm, IPC High Density)
footprint PLCC-68_M (Leaded Chip Carrier, 68-Leads, Body 24x24mm, Pitch 1.27mm, IPC Low Density)
3D model PIC17C752-PLCC-68 (68-Pin Leaded Chip Carrier 1.27 mm Pitch)
pins: 1 NC, 2 VDD (power), 3 RC0/AD0 (io), 4 RD7/AD15 (io), 5 RD6/AD14 (io), 6 RD5/AD13 (io), 7 RD4/AD12 (io), 8 RD3/AD11 (io), 9 RD2/AD10 (io), 10 RD1/AD9 (io), 11 RD0/AD8 (io), 12 RE0/ALE (io), 13 RE1/~{OE} (io), 14 RE2/~{WR} (io), 15 RE3/CAP4 (io), 16 ~{MCLR}/VPP (in), 17 TEST (in), 18 NC, 19 VSS (power), 20 VDD (power), 21 RF7/AN11 (io), 22 RF6/AN10 (io), 23 RF5/AN9 (io), 24 RF4/AN8 (io), 25 RF3/AN7 (io), 26 RF2/AN6 (io), 27 RF1/AN5 (io), 28 RF0/AN4 (io), 29 AVDD (power), 30 AVSS (power), 31 RG3/AN0/VREF+ (io), 32 RG2/AN1/VREF- (io), 33 RG1/AN2 (io), 34 RG0/AN3 (io), 35 NC, 36 VSS (power), 37 VDD (power), 38 RG4/CAP3 (io), 39 RG5/PWM3 (io), 40 RG7/TX2/CK2 (io), 41 RG6/RX2/DT2 (io), 42 RA5/TX1/CK1 (io), 43 RA4/RX1/DT1 (io), 44 RA1/T0CKI (in), 45 RA2/~{SS}/SCL (io), 46 RA3/SDI/SDA (io), 47 RB6/SCK (io), 48 RB7/SDO (io), 49 VDD (power), 50 OSC1/CLKIN (in), 51 OSC2/CLKOUT (out), 52 NC, 53 VSS (power), 54 RB2/PWM1 (io), 55 RB5/TCLK3 (io), 56 RB4/TCLK12 (io), 57 RB3/PWM2 (io), 58 RB1/CAP2 (io), 59 RB0/CAP1 (io), 60 RA0/INT (in), 61 RC7/AD7 (io), 62 RC6/AD6 (io), 63 RC5/AD5 (io), 64 RC4/AD4 (io), 65 RC3/AD3 (io), 66 RC2/AD2 (io), 67 RC1/AD1 (io), 68 VSS (power)

## PIC17C752-16E/PT
designator U?
High-Performance 8-Bit CMOS EPROM Microcontroller with 10-Bit A/D, 8K (x16) EPROM, 16 MHz, 64-Pin TQFP, Standard VDD Range, Extended Temperature; Note: Not recommended for new designs. Consider PIC18F6520 instead.; Note: Pins RA2 and RA3 can sink up to 60 mA.; Published: 11-Oct-2004; LatestRevisionDate: 13-Apr-2006; LatestRevisionNote: IPC-7351 Footprint Added.; DatasheetVersion: DS30289B_2000; PackageVersion: 2003; PackageReference: TQFP-64; Publisher: Altium Limited; PackageDescription: 64-Pin Thin Plastic Quad Flat Pack 0.5 mm Pitch, 1.0/0.1 mm Lead Form; Code_JEDEC: MS-026; ComponentLink1Description: Manufacturer Link; ComponentLink1URL: http://www.microchip.com; ComponentLink2Description: Datasheet; ComponentLink2URL: http://ww1.microchip.com/downloads/en/DeviceDoc/30289b.pdf; ComponentLink3Description: Packaging Specification; ComponentLink3URL: http://ww1.microchip.com/downloads/en/PackagingSpec/00049AD.pdf
footprint TQFP-64_N (Thin QFP, 64-Leads, Body 10x10mm, Pitch 0.5mm, IPC Medium Density)
footprint TQFP-64_L (Thin QFP, 64-Leads, Body 10x10mm, Pitch 0.5mm, IPC High Density)
footprint TQFP-64_M (Thin QFP, 64-Leads, Body 10x10mm, Pitch 0.5mm, IPC Low Density)
3D model PIC17C752-TQFP-64 (64-Pin Thin Plastic Quad Flat Pack 0.5 mm Pitch, 1.0/0.1 mm Lead Form)
pins: 1 RD1/AD9 (io), 2 RD0/AD8 (io), 3 RE0/ALE (io), 4 RE1/~{OE} (io), 5 RE2/~{WR} (io), 6 RE3/CAP4 (io), 7 ~{MCLR}/VPP (in), 8 TEST (in), 9 VSS (power), 10 VDD (power), 11 RF7/AN11 (io), 12 RF6/AN10 (io), 13 RF5/AN9 (io), 14 RF4/AN8 (io), 15 RF3/AN7 (io), 16 RF2/AN6 (io), 17 RF1/AN5 (io), 18 RF0/AN4 (io), 19 AVDD (power), 20 AVSS (power), 21 RG3/AN0/VREF+ (io), 22 RG2/AN1/VREF- (io), 23 RG1/AN2 (io), 24 RG0/AN3 (io), 25 VSS (power), 26 VDD (power), 27 RG4/CAP3 (io), 28 RG5/PWM3 (io), 29 RG7/TX2/CK2 (io), 30 RG6/RX2/DT2 (io), 31 RA5/TX1/CK1 (io), 32 RA4/RX1/DT1 (io), 33 RA1/T0CKI (in), 34 RA2/~{SS}/SCL (io), 35 RA3/SDI/SDA (io), 36 RB6/SCK (io), 37 RB7/SDO (io), 38 VDD (power), 39 OSC1/CLKIN (in), 40 OSC2/CLKOUT (out), 41 VSS (power), 42 RB2/PWM1 (io), 43 RB5/TCLK3 (io), 44 RB4/TCLK12 (io), 45 RB3/PWM2 (io), 46 RB1/CAP2 (io), 47 RB0/CAP1 (io), 48 RA0/INT (in), 49 RC7/AD7 (io), 50 RC6/AD6 (io), 51 RC5/AD5 (io), 52 RC4/AD4 (io), 53 RC3/AD3 (io), 54 RC2/AD2 (io), 55 RC1/AD1 (io), 56 VSS (power), 57 VDD (power), 58 RC0/AD0 (io), 59 RD7/AD15 (io), 60 RD6/AD14 (io), 61 RD5/AD13 (io), 62 RD4/AD12 (io), 63 RD3/AD11 (io), 64 RD2/AD10 (io)

## PIC17C752-16I/L
designator U?
High-Performance 8-Bit CMOS EPROM Microcontroller with 10-Bit A/D, 8K (x16) EPROM, 16 MHz, 68-Pin PLCC, Standard VDD Range, Industrial Temperature; Note: Not recommended for new designs. Consider PIC18F6520 instead.; Note: Pins RA2 and RA3 can sink up to 60 mA.; Published: 11-Oct-2004; LatestRevisionDate: 13-Apr-2006; LatestRevisionNote: IPC-7351 Footprint Added.; DatasheetVersion: DS30289B_2000; PackageVersion: 2003; PackageReference: PLCC-68; Publisher: Altium Limited; PackageDescription: 68-Pin Leaded Chip Carrier 1.27 mm Pitch; Code_JEDEC: MO-047; Code_IPC: PLCC-68; ComponentLink1Description: Manufacturer Link; ComponentLink1URL: http://www.microchip.com; ComponentLink2Description: Datasheet; ComponentLink2URL: http://ww1.microchip.com/downloads/en/DeviceDoc/30289b.pdf; ComponentLink3Description: Packaging Specification; ComponentLink3URL: http://ww1.microchip.com/downloads/en/PackagingSpec/00049AD.pdf
footprint PLCC-68_N (Leaded Chip Carrier, 68-Leads, Body 24x24mm, Pitch 1.27mm, IPC Medium Density)
footprint PLCC-68_L (Leaded Chip Carrier, 68-Leads, Body 24x24mm, Pitch 1.27mm, IPC High Density)
footprint PLCC-68_M (Leaded Chip Carrier, 68-Leads, Body 24x24mm, Pitch 1.27mm, IPC Low Density)
3D model PIC17C752-PLCC-68 (68-Pin Leaded Chip Carrier 1.27 mm Pitch)
pins: 1 NC, 2 VDD (power), 3 RC0/AD0 (io), 4 RD7/AD15 (io), 5 RD6/AD14 (io), 6 RD5/AD13 (io), 7 RD4/AD12 (io), 8 RD3/AD11 (io), 9 RD2/AD10 (io), 10 RD1/AD9 (io), 11 RD0/AD8 (io), 12 RE0/ALE (io), 13 RE1/~{OE} (io), 14 RE2/~{WR} (io), 15 RE3/CAP4 (io), 16 ~{MCLR}/VPP (in), 17 TEST (in), 18 NC, 19 VSS (power), 20 VDD (power), 21 RF7/AN11 (io), 22 RF6/AN10 (io), 23 RF5/AN9 (io), 24 RF4/AN8 (io), 25 RF3/AN7 (io), 26 RF2/AN6 (io), 27 RF1/AN5 (io), 28 RF0/AN4 (io), 29 AVDD (power), 30 AVSS (power), 31 RG3/AN0/VREF+ (io), 32 RG2/AN1/VREF- (io), 33 RG1/AN2 (io), 34 RG0/AN3 (io), 35 NC, 36 VSS (power), 37 VDD (power), 38 RG4/CAP3 (io), 39 RG5/PWM3 (io), 40 RG7/TX2/CK2 (io), 41 RG6/RX2/DT2 (io), 42 RA5/TX1/CK1 (io), 43 RA4/RX1/DT1 (io), 44 RA1/T0CKI (in), 45 RA2/~{SS}/SCL (io), 46 RA3/SDI/SDA (io), 47 RB6/SCK (io), 48 RB7/SDO (io), 49 VDD (power), 50 OSC1/CLKIN (in), 51 OSC2/CLKOUT (out), 52 NC, 53 VSS (power), 54 RB2/PWM1 (io), 55 RB5/TCLK3 (io), 56 RB4/TCLK12 (io), 57 RB3/PWM2 (io), 58 RB1/CAP2 (io), 59 RB0/CAP1 (io), 60 RA0/INT (in), 61 RC7/AD7 (io), 62 RC6/AD6 (io), 63 RC5/AD5 (io), 64 RC4/AD4 (io), 65 RC3/AD3 (io), 66 RC2/AD2 (io), 67 RC1/AD1 (io), 68 VSS (power)

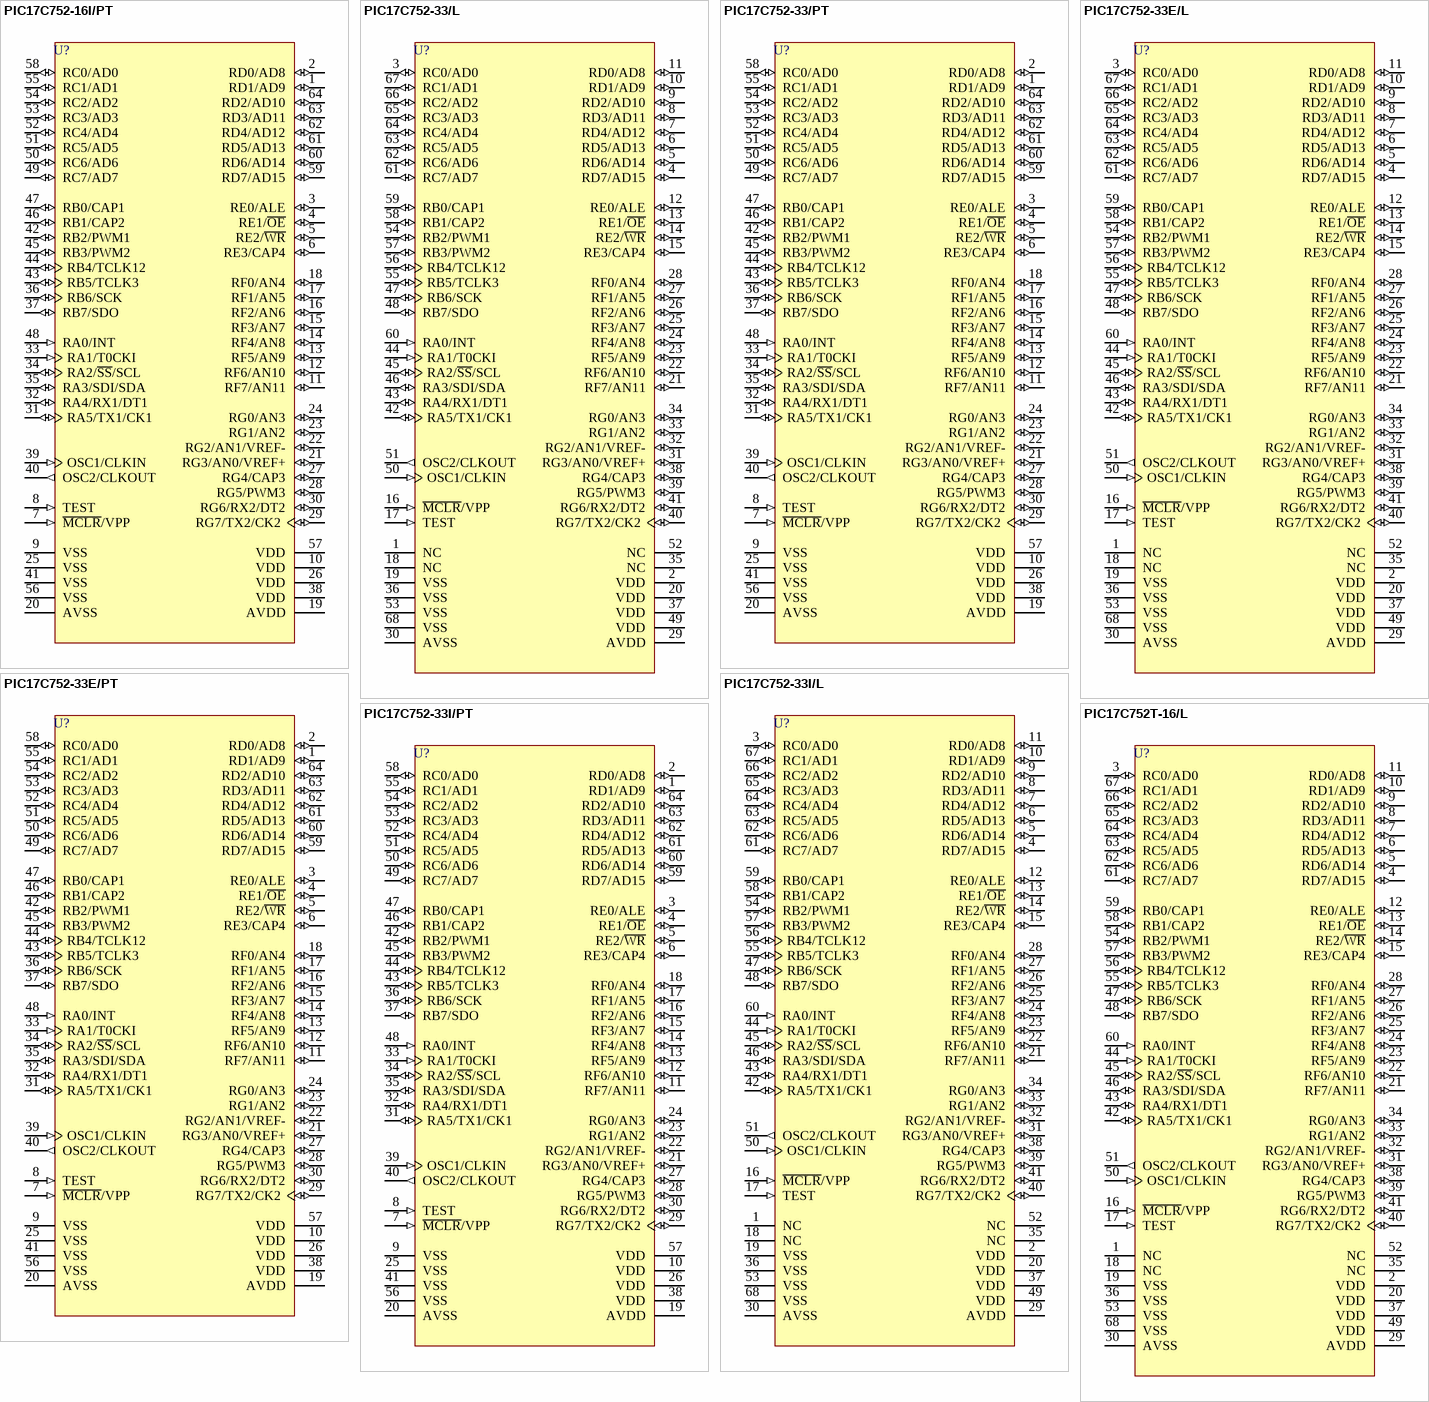
[diagram p16: symbols PIC17C752-16I/PT to PIC17C752T-16/L]

## PIC17C752-16I/PT
designator U?
High-Performance 8-Bit CMOS EPROM Microcontroller with 10-Bit A/D, 8K (x16) EPROM, 16 MHz, 64-Pin TQFP, Standard VDD Range, Industrial Temperature; Note: Not recommended for new designs. Consider PIC18F6520 instead.; Note: Pins RA2 and RA3 can sink up to 60 mA.; Published: 11-Oct-2004; LatestRevisionDate: 13-Apr-2006; LatestRevisionNote: IPC-7351 Footprint Added.; DatasheetVersion: DS30289B_2000; PackageVersion: 2003; PackageReference: TQFP-64; Publisher: Altium Limited; PackageDescription: 64-Pin Thin Plastic Quad Flat Pack 0.5 mm Pitch, 1.0/0.1 mm Lead Form; Code_JEDEC: MS-026; ComponentLink1Description: Manufacturer Link; ComponentLink1URL: http://www.microchip.com; ComponentLink2Description: Datasheet; ComponentLink2URL: http://ww1.microchip.com/downloads/en/DeviceDoc/30289b.pdf; ComponentLink3Description: Packaging Specification; ComponentLink3URL: http://ww1.microchip.com/downloads/en/PackagingSpec/00049AD.pdf
footprint TQFP-64_N (Thin QFP, 64-Leads, Body 10x10mm, Pitch 0.5mm, IPC Medium Density)
footprint TQFP-64_L (Thin QFP, 64-Leads, Body 10x10mm, Pitch 0.5mm, IPC High Density)
footprint TQFP-64_M (Thin QFP, 64-Leads, Body 10x10mm, Pitch 0.5mm, IPC Low Density)
3D model PIC17C752-TQFP-64 (64-Pin Thin Plastic Quad Flat Pack 0.5 mm Pitch, 1.0/0.1 mm Lead Form)
pins: 1 RD1/AD9 (io), 2 RD0/AD8 (io), 3 RE0/ALE (io), 4 RE1/~{OE} (io), 5 RE2/~{WR} (io), 6 RE3/CAP4 (io), 7 ~{MCLR}/VPP (in), 8 TEST (in), 9 VSS (power), 10 VDD (power), 11 RF7/AN11 (io), 12 RF6/AN10 (io), 13 RF5/AN9 (io), 14 RF4/AN8 (io), 15 RF3/AN7 (io), 16 RF2/AN6 (io), 17 RF1/AN5 (io), 18 RF0/AN4 (io), 19 AVDD (power), 20 AVSS (power), 21 RG3/AN0/VREF+ (io), 22 RG2/AN1/VREF- (io), 23 RG1/AN2 (io), 24 RG0/AN3 (io), 25 VSS (power), 26 VDD (power), 27 RG4/CAP3 (io), 28 RG5/PWM3 (io), 29 RG7/TX2/CK2 (io), 30 RG6/RX2/DT2 (io), 31 RA5/TX1/CK1 (io), 32 RA4/RX1/DT1 (io), 33 RA1/T0CKI (in), 34 RA2/~{SS}/SCL (io), 35 RA3/SDI/SDA (io), 36 RB6/SCK (io), 37 RB7/SDO (io), 38 VDD (power), 39 OSC1/CLKIN (in), 40 OSC2/CLKOUT (out), 41 VSS (power), 42 RB2/PWM1 (io), 43 RB5/TCLK3 (io), 44 RB4/TCLK12 (io), 45 RB3/PWM2 (io), 46 RB1/CAP2 (io), 47 RB0/CAP1 (io), 48 RA0/INT (in), 49 RC7/AD7 (io), 50 RC6/AD6 (io), 51 RC5/AD5 (io), 52 RC4/AD4 (io), 53 RC3/AD3 (io), 54 RC2/AD2 (io), 55 RC1/AD1 (io), 56 VSS (power), 57 VDD (power), 58 RC0/AD0 (io), 59 RD7/AD15 (io), 60 RD6/AD14 (io), 61 RD5/AD13 (io), 62 RD4/AD12 (io), 63 RD3/AD11 (io), 64 RD2/AD10 (io)

## PIC17C752-33/L
designator U?
High-Performance 8-Bit CMOS EPROM Microcontroller with 10-Bit A/D, 8K (x16) EPROM, 33 MHz, 68-Pin PLCC, Standard VDD Range, Commercial Temperature; Note: Not recommended for new designs. Consider PIC18F6520 instead.; Note: Pins RA2 and RA3 can sink up to 60 mA.; Published: 11-Oct-2004; LatestRevisionDate: 13-Apr-2006; LatestRevisionNote: IPC-7351 Footprint Added.; DatasheetVersion: DS30289B_2000; PackageVersion: 2003; PackageReference: PLCC-68; Publisher: Altium Limited; PackageDescription: 68-Pin Leaded Chip Carrier 1.27 mm Pitch; Code_JEDEC: MO-047; Code_IPC: PLCC-68; ComponentLink1Description: Manufacturer Link; ComponentLink1URL: http://www.microchip.com; ComponentLink2Description: Datasheet; ComponentLink2URL: http://ww1.microchip.com/downloads/en/DeviceDoc/30289b.pdf; ComponentLink3Description: Packaging Specification; ComponentLink3URL: http://ww1.microchip.com/downloads/en/PackagingSpec/00049AD.pdf
footprint PLCC-68_N (Leaded Chip Carrier, 68-Leads, Body 24x24mm, Pitch 1.27mm, IPC Medium Density)
footprint PLCC-68_L (Leaded Chip Carrier, 68-Leads, Body 24x24mm, Pitch 1.27mm, IPC High Density)
footprint PLCC-68_M (Leaded Chip Carrier, 68-Leads, Body 24x24mm, Pitch 1.27mm, IPC Low Density)
3D model PIC17C752-PLCC-68 (68-Pin Leaded Chip Carrier 1.27 mm Pitch)
pins: 1 NC, 2 VDD (power), 3 RC0/AD0 (io), 4 RD7/AD15 (io), 5 RD6/AD14 (io), 6 RD5/AD13 (io), 7 RD4/AD12 (io), 8 RD3/AD11 (io), 9 RD2/AD10 (io), 10 RD1/AD9 (io), 11 RD0/AD8 (io), 12 RE0/ALE (io), 13 RE1/~{OE} (io), 14 RE2/~{WR} (io), 15 RE3/CAP4 (io), 16 ~{MCLR}/VPP (in), 17 TEST (in), 18 NC, 19 VSS (power), 20 VDD (power), 21 RF7/AN11 (io), 22 RF6/AN10 (io), 23 RF5/AN9 (io), 24 RF4/AN8 (io), 25 RF3/AN7 (io), 26 RF2/AN6 (io), 27 RF1/AN5 (io), 28 RF0/AN4 (io), 29 AVDD (power), 30 AVSS (power), 31 RG3/AN0/VREF+ (io), 32 RG2/AN1/VREF- (io), 33 RG1/AN2 (io), 34 RG0/AN3 (io), 35 NC, 36 VSS (power), 37 VDD (power), 38 RG4/CAP3 (io), 39 RG5/PWM3 (io), 40 RG7/TX2/CK2 (io), 41 RG6/RX2/DT2 (io), 42 RA5/TX1/CK1 (io), 43 RA4/RX1/DT1 (io), 44 RA1/T0CKI (in), 45 RA2/~{SS}/SCL (io), 46 RA3/SDI/SDA (io), 47 RB6/SCK (io), 48 RB7/SDO (io), 49 VDD (power), 50 OSC1/CLKIN (in), 51 OSC2/CLKOUT (out), 52 NC, 53 VSS (power), 54 RB2/PWM1 (io), 55 RB5/TCLK3 (io), 56 RB4/TCLK12 (io), 57 RB3/PWM2 (io), 58 RB1/CAP2 (io), 59 RB0/CAP1 (io), 60 RA0/INT (in), 61 RC7/AD7 (io), 62 RC6/AD6 (io), 63 RC5/AD5 (io), 64 RC4/AD4 (io), 65 RC3/AD3 (io), 66 RC2/AD2 (io), 67 RC1/AD1 (io), 68 VSS (power)

## PIC17C752-33/PT
designator U?
High-Performance 8-Bit CMOS EPROM Microcontroller with 10-Bit A/D, 8K (x16) EPROM, 33 MHz, 64-Pin TQFP, Standard VDD Range, Commercial Temperature; Note: Not recommended for new designs. Consider PIC18F6520 instead.; Note: Pins RA2 and RA3 can sink up to 60 mA.; Published: 11-Oct-2004; LatestRevisionDate: 13-Apr-2006; LatestRevisionNote: IPC-7351 Footprint Added.; DatasheetVersion: DS30289B_2000; PackageVersion: 2003; PackageReference: TQFP-64; Publisher: Altium Limited; PackageDescription: 64-Pin Thin Plastic Quad Flat Pack 0.5 mm Pitch, 1.0/0.1 mm Lead Form; Code_JEDEC: MS-026; ComponentLink1Description: Manufacturer Link; ComponentLink1URL: http://www.microchip.com; ComponentLink2Description: Datasheet; ComponentLink2URL: http://ww1.microchip.com/downloads/en/DeviceDoc/30289b.pdf; ComponentLink3Description: Packaging Specification; ComponentLink3URL: http://ww1.microchip.com/downloads/en/PackagingSpec/00049AD.pdf
footprint TQFP-64_N (Thin QFP, 64-Leads, Body 10x10mm, Pitch 0.5mm, IPC Medium Density)
footprint TQFP-64_L (Thin QFP, 64-Leads, Body 10x10mm, Pitch 0.5mm, IPC High Density)
footprint TQFP-64_M (Thin QFP, 64-Leads, Body 10x10mm, Pitch 0.5mm, IPC Low Density)
3D model PIC17C752-TQFP-64 (64-Pin Thin Plastic Quad Flat Pack 0.5 mm Pitch, 1.0/0.1 mm Lead Form)
pins: 1 RD1/AD9 (io), 2 RD0/AD8 (io), 3 RE0/ALE (io), 4 RE1/~{OE} (io), 5 RE2/~{WR} (io), 6 RE3/CAP4 (io), 7 ~{MCLR}/VPP (in), 8 TEST (in), 9 VSS (power), 10 VDD (power), 11 RF7/AN11 (io), 12 RF6/AN10 (io), 13 RF5/AN9 (io), 14 RF4/AN8 (io), 15 RF3/AN7 (io), 16 RF2/AN6 (io), 17 RF1/AN5 (io), 18 RF0/AN4 (io), 19 AVDD (power), 20 AVSS (power), 21 RG3/AN0/VREF+ (io), 22 RG2/AN1/VREF- (io), 23 RG1/AN2 (io), 24 RG0/AN3 (io), 25 VSS (power), 26 VDD (power), 27 RG4/CAP3 (io), 28 RG5/PWM3 (io), 29 RG7/TX2/CK2 (io), 30 RG6/RX2/DT2 (io), 31 RA5/TX1/CK1 (io), 32 RA4/RX1/DT1 (io), 33 RA1/T0CKI (in), 34 RA2/~{SS}/SCL (io), 35 RA3/SDI/SDA (io), 36 RB6/SCK (io), 37 RB7/SDO (io), 38 VDD (power), 39 OSC1/CLKIN (in), 40 OSC2/CLKOUT (out), 41 VSS (power), 42 RB2/PWM1 (io), 43 RB5/TCLK3 (io), 44 RB4/TCLK12 (io), 45 RB3/PWM2 (io), 46 RB1/CAP2 (io), 47 RB0/CAP1 (io), 48 RA0/INT (in), 49 RC7/AD7 (io), 50 RC6/AD6 (io), 51 RC5/AD5 (io), 52 RC4/AD4 (io), 53 RC3/AD3 (io), 54 RC2/AD2 (io), 55 RC1/AD1 (io), 56 VSS (power), 57 VDD (power), 58 RC0/AD0 (io), 59 RD7/AD15 (io), 60 RD6/AD14 (io), 61 RD5/AD13 (io), 62 RD4/AD12 (io), 63 RD3/AD11 (io), 64 RD2/AD10 (io)

## PIC17C752-33E/L
designator U?
High-Performance 8-Bit CMOS EPROM Microcontroller with 10-Bit A/D, 8K (x16) EPROM, 33 MHz, 68-Pin PLCC, Standard VDD Range, Extended Temperature; Note: Not recommended for new designs. Consider PIC18F6520 instead.; Note: Pins RA2 and RA3 can sink up to 60 mA.; Published: 11-Oct-2004; LatestRevisionDate: 13-Apr-2006; LatestRevisionNote: IPC-7351 Footprint Added.; DatasheetVersion: DS30289B_2000; PackageVersion: 2003; PackageReference: PLCC-68; Publisher: Altium Limited; PackageDescription: 68-Pin Leaded Chip Carrier 1.27 mm Pitch; Code_JEDEC: MO-047; Code_IPC: PLCC-68; ComponentLink1Description: Manufacturer Link; ComponentLink1URL: http://www.microchip.com; ComponentLink2Description: Datasheet; ComponentLink2URL: http://ww1.microchip.com/downloads/en/DeviceDoc/30289b.pdf; ComponentLink3Description: Packaging Specification; ComponentLink3URL: http://ww1.microchip.com/downloads/en/PackagingSpec/00049AD.pdf
footprint PLCC-68_N (Leaded Chip Carrier, 68-Leads, Body 24x24mm, Pitch 1.27mm, IPC Medium Density)
footprint PLCC-68_L (Leaded Chip Carrier, 68-Leads, Body 24x24mm, Pitch 1.27mm, IPC High Density)
footprint PLCC-68_M (Leaded Chip Carrier, 68-Leads, Body 24x24mm, Pitch 1.27mm, IPC Low Density)
3D model PIC17C752-PLCC-68 (68-Pin Leaded Chip Carrier 1.27 mm Pitch)
pins: 1 NC, 2 VDD (power), 3 RC0/AD0 (io), 4 RD7/AD15 (io), 5 RD6/AD14 (io), 6 RD5/AD13 (io), 7 RD4/AD12 (io), 8 RD3/AD11 (io), 9 RD2/AD10 (io), 10 RD1/AD9 (io), 11 RD0/AD8 (io), 12 RE0/ALE (io), 13 RE1/~{OE} (io), 14 RE2/~{WR} (io), 15 RE3/CAP4 (io), 16 ~{MCLR}/VPP (in), 17 TEST (in), 18 NC, 19 VSS (power), 20 VDD (power), 21 RF7/AN11 (io), 22 RF6/AN10 (io), 23 RF5/AN9 (io), 24 RF4/AN8 (io), 25 RF3/AN7 (io), 26 RF2/AN6 (io), 27 RF1/AN5 (io), 28 RF0/AN4 (io), 29 AVDD (power), 30 AVSS (power), 31 RG3/AN0/VREF+ (io), 32 RG2/AN1/VREF- (io), 33 RG1/AN2 (io), 34 RG0/AN3 (io), 35 NC, 36 VSS (power), 37 VDD (power), 38 RG4/CAP3 (io), 39 RG5/PWM3 (io), 40 RG7/TX2/CK2 (io), 41 RG6/RX2/DT2 (io), 42 RA5/TX1/CK1 (io), 43 RA4/RX1/DT1 (io), 44 RA1/T0CKI (in), 45 RA2/~{SS}/SCL (io), 46 RA3/SDI/SDA (io), 47 RB6/SCK (io), 48 RB7/SDO (io), 49 VDD (power), 50 OSC1/CLKIN (in), 51 OSC2/CLKOUT (out), 52 NC, 53 VSS (power), 54 RB2/PWM1 (io), 55 RB5/TCLK3 (io), 56 RB4/TCLK12 (io), 57 RB3/PWM2 (io), 58 RB1/CAP2 (io), 59 RB0/CAP1 (io), 60 RA0/INT (in), 61 RC7/AD7 (io), 62 RC6/AD6 (io), 63 RC5/AD5 (io), 64 RC4/AD4 (io), 65 RC3/AD3 (io), 66 RC2/AD2 (io), 67 RC1/AD1 (io), 68 VSS (power)